# Altium schematic symbol library DC-10YWA.SchLib: 1 symbol
Pins are listed as number, name and electrical type; pins without a type are passive.

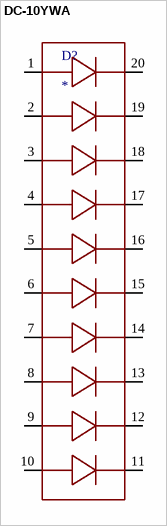
[diagram p0: symbol DC-10YWA]

## DC-10YWA
designator D?
footprint DC-10YWA
pins: 1, 2, 3, 4, 5, 6, 7, 8, 9, 10, 11, 12, 13, 14, 15, 16, 17, 18, 19, 20